# Altium schematic symbol library Passive.SchLib: 19 symbols
Pins are listed as number, name and electrical type; pins without a type are passive.

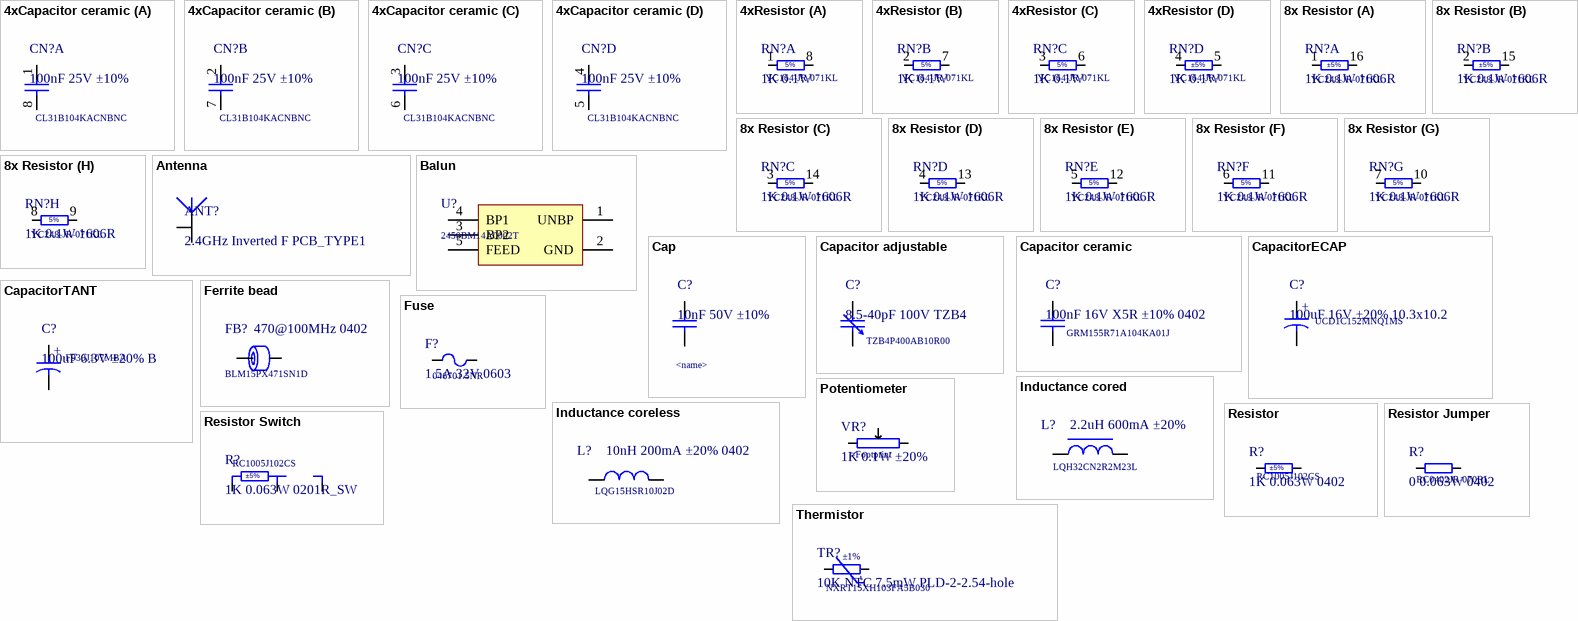
[diagram p0: symbols 4xCapacitor ceramic to Thermistor]

## 4xCapacitor ceramic
designator CN?, comment 100nF 25V ±10%  Name: CL31B104KACNBNC
Chip capacitor network 4 elements; Manufacturer: Samsung; Tolerance: ±10%; Capacitance: 100nF; Voltage: 25V; HelpURL: *; Supplier: *; BOMString: =Capacitance+' '+Voltage+' '+Tolerance+' '+Footprint
part A pins: 1, 8
part B pins: 2, 7
part C pins: 3, 6
part D pins: 4, 5

## 4xResistor
designator RN?, comment 1K 0.1W  Name: YC164-JR-071KL
Thin Film Chip Resistor Network 4 elements; Manufacturer: Yageo; Tolerance: ±5%; Resistance: 1K; Power: 0.1W; BOMString: =Resistance+' '+Power+' '+Tolerance+' '+Footprint; HelpURL: *; Supplier: *
part A pins: 1, 8
part B pins: 2, 7
part C pins: 3, 6
part D pins: 4, 5
part A text: 5%
part B text: 5%
part C text: 5%

## 8x Resistor
designator RN?, comment 1K 0.1W  Name: YC248-JR-071KL
Thin Film Chip Resistor Network 8 elements; Manufacturer: Yageo; Tolerance: ±5%; Resistance: 1K; Power: 0.1W; Supplier: *; HelpURL: *; BOMString: =Resistance+' '+Power+' '+Tolerance+' '+Footprint
footprint 1606R (Chip Array, Concave, 16-Leads, Pitch 0,50mm,  Body 4,00x1,60mm,  IPC Medium Density)
part A pins: 1, 16
part B pins: 2, 15
part C pins: 3, 14
part D pins: 4, 13
part E pins: 5, 12
part F pins: 6, 11
part G pins: 7, 10
part H pins: 8, 9
part C text: 5%
part D text: 5%
part E text: 5%
part F text: 5%
part G text: 5%
part H text: 5%

## Antenna
designator ANT?, comment 2.4GHz Inverted F  (no BOM)
Antenna; Frequency: 2.4GHz; Value: Inverted F; BOMString: =Frequency+' '+Value+' '+Footprint
footprint PCB_TYPE1
footprint PCB_TYPE2
footprint 3216
footprint PCB_TYPE3
pins: 1, 2

## Balun
designator U?, comment 2450BM14A0002T
2.45 GHz Impedance Matched Balun-Filter; Value: 2450BM14A0002T
footprint Balun0603
pins: 1 UNBP, 2 GND, 3 BP2, 4 BP1, 5 FEED

## Cap
designator C?, comment 10nF 50V ±10%  Name: <name>
Capacitor; Tolerance: ±10%; Capacitance: 10nF; Voltage: 50V; BOMString: =Capacitance+' '+Voltage+' '+Tolerance+' '+Footprint; HelpURL: *; Supplier: *; Manufacturer: *
pins: 1, 2

## Capacitor adjustable
designator C?, comment 8.5-40pF 100V  Name: TZB4P400AB10R00
Adjustable capacitor; Manufacturer: Murata; Capacitance: 8.5-40pF; Voltage: 100V; BOMString: =Capacitance+' '+Voltage+' '+Tolerance+' '+Footprint; HelpURL: *; Supplier: *
footprint 9343 (JOHANSON 9343 Serie, Single Turn Trimmer Capacitor, Body 4.49x3.175mm)
footprint TZB4 (MURATA TZB4 Series, Ceramic Trimmer Capacitor, Body 4.5 x 4.2mm)
footprint TZV2 (MURATA TZV2 Serie, Ceramic Trimmer Capacitor, Body 2.3 x 3.2mm)
footprint TZY2 (MURATA TZY2 Serie, Ceramic Trimmer Capacitor, Body 2.5 x 3.2mm)
pins: 1, 2

## Capacitor ceramic
designator C?, comment 100nF 16V X5R ±10%  Name: GRM155R71A104KA01J
Ceramic capacitor; Manufacturer: Murata; Voltage: 16V; Tolerance: ±10%; Capacitance: 100nF; Dielectric: X5R; BOMString: =Capacitance+' '+Voltage+' '+Tolerance+' '+Footprint; HelpURL: *; Supplier: *
footprint 0201 (Chip Resistor, EIA 0201, Metric 0603, Body 0.6 x 0.3mm, IPC Medium Density)
footprint 0402 (Chip Resistor, EIA 0402, Metric 1005, Body 1.0x0.5mm, IPC Medium Density)
footprint 0603 (Chip Resistor, EIA 0603, Metric 1608, Body 1.6x0.8mm, IPC Medium Density)
footprint 0805 (Chip Resistor, EIA 0805, Metric 2012, Body 2.0x1.2mm, IPC Medium Density)
footprint 1206 (Chip Resistor, EIA 1206, Metric 3216, Body 3.2x1.6mm, IPC Medium Density)
footprint 1812 (Chip Resistor, EIA 1812, Metric 4532, 2-Leads, Body 4.5x3.2mm, IPC Medium Density)
footprint 2220 (Chip Capacitor, 2-Leads, Body 5,90x5,00mm, IPC Medium Density)
footprint 1210 (Chip Capacitor, 2-Leads, Body 3,20x2,50mm, IPC Medium Density)
pins: 1, 2

## CapacitorECAP
designator C?, comment 100uF 16V ±20%  Name: UCD1C152MNQ1MS
Aluminium electrolytic capacitor; Manufacturer: Nichicon; Voltage: 16V; Tolerance: ±20%; Capacitance: 100uF; HelpURL: *; Supplier: *; BOMString: =Capacitance+' '+Voltage+' '+Tolerance+' '+Footprint
footprint 4.3x5.4 (Capacitor, Aluminium Electrolytric, 4.3mm L X 4.3mm W X 5.4mm H, IPC Medium Density)
footprint 5.3x5.4 (Capacitor, Aluminium Electrolytric, 5.3mm L X 5.3mm W X 5.4mm H, IPC Medium Density)
footprint 8.3x6.2 (Capacitor, Aluminium Electrolytric, 8.3mm L X 8.3mm W X 6.2mm H, IPC Medium Density)
footprint 8.3x10.2 (Capacitor, Aluminium Electrolytric, 8.3mm L X 8.3mm W X 10.2mm H, IPC Medium Density)
footprint 10.3x10.2 (Capacitor, Aluminium Electrolytric, 10.3mm L X 10.3mm W X 10.2mm H, IPC Medium Density)
footprint 19x16.8 (Capacitor,Aluminum Electrolytic; 19.00mm L X 19.00mm W X 16.80mm H , IPC Medium Density)
footprint 12.5X13.5
footprint 6.3x5.4 (Capacitor, Aluminium Electrolytric, 6.6mm L X 6.6mm W X 5.4mm H, IPC Medium Density)
pins: 1, 2
text: +

## CapacitorTANT
designator C?, comment 100uF 6.3V ±20%  Name: F930J107MBA
Polarized capacitor; Manufacturer: AVX; Voltage: 6.3V; Tolerance: ±20%; Capacitance: 100uF; BOMString: =Capacitance+' '+Voltage+' '+Tolerance+' '+Footprint; HelpURL: *; Supplier: *
footprint A
footprint B
footprint C
footprint D
footprint V
footprint E
pins: 1, 2
text: +

## Ferrite bead
designator FB?, comment 470@100MHz  Name: BLM15PX471SN1D
Ferrite bead; Current: 1A; Resistance: 0.2R; Impedance: 470@100MHz; BOMString: =Impedance+' '+Current+' '+Footprint; HelpURL: *; Manufacturer: *; Supplier: *
footprint 0201 (Chip Resistor, EIA 0201, Metric 0603, Body 0.6 x 0.3mm, IPC Medium Density)
footprint 0402 (Chip Resistor, EIA 0402, Metric 1005, Body 1.0x0.5mm, IPC Medium Density)
footprint 0603 (Chip Resistor, EIA 0603, Metric 1608, Body 1.6x0.8mm, IPC Medium Density)
footprint 0805 (Chip Resistor, EIA 0805, Metric 2012, Body 2.0x1.2mm, IPC Medium Density)
footprint 1206 (Chip Resistor, EIA 1206, Metric 3216, Body 3.2x1.6mm, IPC Medium Density)
footprint 1812 (Chip Resistor, EIA 1812, Metric 4532, 2-Leads, Body 4.5x3.2mm, IPC Medium Density)
footprint 1008_1 (Chip Inductor, 2-Leads, Body 2,50x2,00mm, IPC Medium Density)
pins: 1 "Test", 2 "Test"

## Fuse
designator F?, comment 1.5A 32V  Name: 046701.5NR
Surface Mount Fuse; Manufacturer: Yageo; Voltage: 32V; Current: 1.5A; HelpURL: *; Supplier: *; BOMString: =Current+' '+Voltage+' '+Footprint
footprint 0603
footprint 1812
pins: 1, 2

## Inductance cored
designator L?, comment 2.2uH 600mA ±20%  Name: LQH32CN2R2M23L
Inductor with iron core; Manufacturer: Taiyo Yuden; Resistance: 0.169; Inductance: 2.2uH; Tolerance: ±20%; Current: 600mA; BOMString: =Inductance+' '+Tolerance+' '+Footprint; HelpURL: *; Supplier: *
footprint CDRH4D18
footprint CDRH5D28
footprint CDRH6D28
footprint CDRH127
footprint CDRH6D38
footprint ASPI-4020HI-2R2M
footprint NR3015T
footprint NRS2012T
footprint IHLP-1212 (Low Profile High Current IHLP® Inductors)
footprint SRN3015 (Semi-shielded Power Inductors)
footprint 1210 (Precision Wire Wound Inductor, 2-Leads, Body 3,20x2,50mm, IPC High Density)
footprint 1008_1 (Chip Inductor, 2-Leads, Body 2,50x2,00mm, IPC Medium Density)
footprint 1008_2 (Chip Inductor, 2-Leads, Body 2,50x2,00mm, IPC Medium Density)
footprint 1008_3 (Chip Inductor, 2-Leads, Body 2,50x2,00mm, IPC Medium Density)
footprint 1812 (Chip Resistor, EIA 1812, Metric 4532, 2-Leads, Body 4.5x3.2mm, IPC Medium Density)
footprint 1206 (Chip Resistor, EIA 1206, Metric 3216, Body 3.2x1.6mm, IPC Medium Density)
footprint 0805 (Chip Resistor, EIA 0805, Metric 2012, Body 2.0x1.2mm, IPC Medium Density)
footprint SRN8040 (Semi-shielded Power Inductors)
footprint SRN5040 (Semi-shielded Power Inductors)
footprint B82472G6
footprint IHLP-5050 (Precision Wire Wound Inductor, 2-Leads, Body 13,20x12,90mm, IPC Medium Density)
footprint SRP1265A
footprint B82464G4
footprint 4020
footprint 5020
footprint 0502
footprint 6020
pins: 1 "Test", 2 "Test"

## Inductance coreless
designator L?, comment 10nH 200mA ±20%  Name: LQG15HSR10J02D
Coreless inductor; Manufacturer: Murata; Tolerance: ±20%; Inductance: 10nH; Current: 200mA; BOMString: =Inductance+' '+Current+' '+Tolerance+' '+Footprint; HelpURL: *; Supplier: *
footprint 0201 (Chip Resistor, EIA 0201, Metric 0603, Body 0.6 x 0.3mm, IPC Medium Density)
footprint 0402 (Chip Resistor, EIA 0402, Metric 1005, Body 1.0x0.5mm, IPC Medium Density)
footprint 0603 (Chip Resistor, EIA 0603, Metric 1608, Body 1.6x0.8mm, IPC Medium Density)
footprint 0805 (Chip Resistor, EIA 0805, Metric 2012, Body 2.0x1.2mm, IPC Medium Density)
footprint 1206 (Chip Resistor, EIA 1206, Metric 3216, Body 3.2x1.6mm, IPC Medium Density)
footprint 1812 (Chip Resistor, EIA 1812, Metric 4532, 2-Leads, Body 4.5x3.2mm, IPC Medium Density)
footprint 1008_4 (Chip Inductor, 2-Leads, Body 2,50x2,00mm, IPC Medium Density)
footprint 1008_1 (Chip Inductor, 2-Leads, Body 2,50x2,00mm, IPC Medium Density)
pins: 1 "Test", 2 "Test"

## Potentiometer
designator VR?, comment 1K 0.1W ±20%
Variable resistor; Power: 0.1W; Resistance: 1K; Tolerance: ±20%; BOMString: 1K 0.1W ±20%; HelpURL: *; Supplier: *; Manufacturer: *; Name: =Footprint
footprint RS08U11AZ001
footprint Bourns_3306F1
footprint Bourns_3319P1
footprint PVM4A
pins: 1, 2, 3

## Resistor
designator R?, comment 1K 0.063W  Name: RC1005J102CS
Thin Film Chip Resistor; Manufacturer: Samsung; Tolerance: ±5%; Power: 0.063W; Resistance: 1K; Supplier: *; HelpURL: *; BOMString: =Resistance+' '+Tolerance+' '+Power+' '+Footprint
footprint 0201 (Chip Resistor, EIA 0201, Metric 0603, Body 0.6 x 0.3mm, IPC Medium Density)
footprint 0402 (Chip Resistor, EIA 0402, Metric 1005, Body 1.0x0.5mm, IPC Medium Density)
footprint 0603 (Chip Resistor, EIA 0603, Metric 1608, Body 1.6x0.8mm, IPC Medium Density)
footprint 0805 (Chip Resistor, EIA 0805, Metric 2012, Body 2.0x1.2mm, IPC Medium Density)
footprint 1206 (Chip Resistor, EIA 1206, Metric 3216, Body 3.2x1.6mm, IPC Medium Density)
footprint 1812 (Chip Resistor, EIA 1812, Metric 4532, 2-Leads, Body 4.5x3.2mm, IPC Medium Density)
footprint 2010 (Resistor, Chip; 5mm L X 2.5mm W X 0.65mm H, IPC Medium Density)
footprint 2512 (Chip Resistor, EIA 2512, Metric 6331, 2-Leads, Body 6.3x3.1mm, IPC Medium Density)
footprint MELF (MELF Resistor, 2-Leads, Body 3.6x1.4mm, IPC Medium Density)
pins: 1, 2

## Resistor Jumper
designator R?, comment 0 0.063W  Name: RC0402JR-070RL
Chip Resistor Jumper; Manufacturer: Yageo; Resistance: 0; Power: 0.063W; BOMString: 0.063W; HelpURL: *; Supplier: *
footprint 0201 (Chip Resistor, EIA 0201, Metric 0603, Body 0.6 x 0.3mm, IPC Medium Density)
footprint 0402 (Chip Resistor, EIA 0402, Metric 1005, Body 1.0x0.5mm, IPC Medium Density)
footprint 0603 (Chip Resistor, EIA 0603, Metric 1608, Body 1.6x0.8mm, IPC Medium Density)
footprint 0805 (Chip Resistor, EIA 0805, Metric 2012, Body 2.0x1.2mm, IPC Medium Density)
footprint 1206 (Chip Resistor, EIA 1206, Metric 3216, Body 3.2x1.6mm, IPC Medium Density)
footprint 1812 (Chip Resistor, EIA 1812, Metric 4532, 2-Leads, Body 4.5x3.2mm, IPC Medium Density)
footprint 2010 (Resistor, Chip; 5mm L X 2.5mm W X 0.65mm H, IPC Medium Density)
footprint 2512 (Chip Resistor, EIA 2512, Metric 6331, 2-Leads, Body 6.3x3.1mm, IPC Medium Density)
footprint MELF (MELF Resistor, 2-Leads, Body 3.6x1.4mm, IPC Medium Density)
pins: 1, 2

## Resistor Switch
designator R?, comment 1K 0.063W  Name: RC1005J102CS
Thin Film Chip Resistor; Manufacturer: Samsung; Tolerance: ±5%; Power: 0.063W; Resistance: 1K; Supplier: *; HelpURL: *; BOMString: =Resistance+' '+Tolerance+' '+Power+' '+Footprint
footprint 0201R_SW (Chip Resistor, EIA 0201, Metric 0603, Body 0.6 x 0.3mm, IPC Medium Density)
footprint 0402R_SW (Chip Resistor, EIA 0402, Metric 1005, Body 1.0x0.5mm, IPC Medium Density)
footprint 0603R_SW (Chip Resistor, EIA 0603, Metric 1608, Body 1.6x0.8mm, IPC Medium Density)
footprint 0805R_SW (Chip Resistor, EIA 0805, Metric 2012, Body 2.0x1.2mm, IPC Medium Density)
pins: 1, 2, 3

## Thermistor
designator TR?, comment 10K NTC 7.5mW  value NXRT15XH103FA5B030  Tolerance: ±1%
Thermistor; Manufacturer: Murata Electronics North America; BOMString: 10K ±1% 7.5mW; Power: 7.5mW; Resistance: 10K; Supplier: https://www.digikey.com/product-detail/en/murata-electronics-north-america/NXRT15XH103FA5B030/490-16930-1-ND/7595837; HelpURL: http://www.murata.com/~/media/webrenewal/support/library/catalog/products/thermistor/ntc/r44e.ashx; ThermistorType: NTC; Name: NXRT15XH103FA5B030
footprint PLD-2-2.54-hole
footprint Thermistor_THD
pins: 1, 2
text: t